# Altium schematic symbol library Schlib1.SchLib: 12 symbols
Pins are listed as number, name and electrical type; pins without a type are passive.

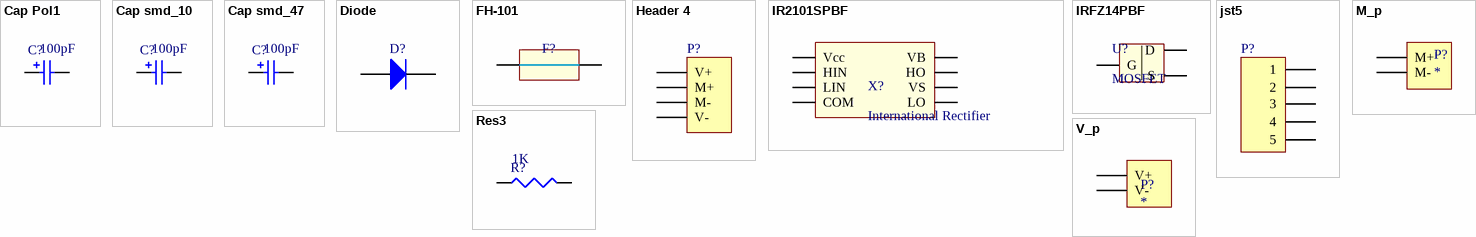
[diagram p0: symbols Cap Pol1 to V_p]

## Cap Pol1
designator C?  value 100pF
Polarized Capacitor (Radial); Published: 8-Jun-2000; LatestRevisionDate: 17-Jul-2002; LatestRevisionNote: Re-released for DXP Platform.; PackageReference: RB7.6-15; Publisher: Altium Limited; PackageDescription: Polarized Capacitor (Radial); 2 Leads
footprint Cap El (Polarized Capacitor (Radial); 2 Leads)
pins: 1, 2
1 alternate drawing of the same symbol

## Cap smd_10
designator C?  value 100pF
Polarized Capacitor (Radial); Published: 8-Jun-2000; LatestRevisionDate: 17-Jul-2002; LatestRevisionNote: Re-released for DXP Platform.; PackageReference: RB7.6-15; Publisher: Altium Limited; PackageDescription: Polarized Capacitor (Radial); 2 Leads
footprint smd cap 10
pins: 1, 2
1 alternate drawing of the same symbol

## Cap smd_47
designator C?  value 100pF
Polarized Capacitor (Radial); Published: 8-Jun-2000; LatestRevisionDate: 17-Jul-2002; LatestRevisionNote: Re-released for DXP Platform.; PackageReference: RB7.6-15; Publisher: Altium Limited; PackageDescription: Polarized Capacitor (Radial); 2 Leads
footprint smd cap 47
pins: 1, 2
1 alternate drawing of the same symbol

## Diode
designator D?
Default Diode; Published: 8-Jun-2000; LatestRevisionDate: 17-Jul-2002; LatestRevisionNote: Re-released for DXP Platform.; PackageVersion: Sep-1996; PackageReference: SMC; Publisher: Altium Limited; PackageDescription: DO-214-AB/SMC; 2 C-Bend Leads; Body 7.9 x 5.9 mm, inc. leads (LxW); Code_JEDEC: DO-214-AB
footprint SOD123
pins: 1, 2

## FH-101
designator F?, comment Fuse  (value not drawn)
footprint FH-101
pins: 1, 2

## Header 4
designator P?
Header, 4-Pin; LatestRevisionDate: 17-Jul-2002; LatestRevisionNote: Re-released for DXP Platform.; Publisher: Altium Limited
signal-integrity model Connector
footprint HDR1X4 (Connector; Header; 4 Position)
pins: 1 V+ "GND", 2 M+, 3 M-, 4 V-

## IR2101SPBF
designator X?, comment International Rectifier
footprint SOIC8
pins: 1 Vcc, 2 HIN, 3 LIN, 4 COM, 5 LO, 6 VS, 7 HO, 8 VB

## IRFZ14PBF
designator U?, comment MOSFET
Configuration: Single; Vds: 60V; Qg: 11nC; Qgs: 3.1nC; Qgd: 5.8nC
footprint SMD220_10CTQ150
pins: 1 G, 2 D, 3 S

## jst5
designator P?
Header, 5-Pin; LatestRevisionDate: 17-Jul-2002; LatestRevisionNote: Re-released for DXP Platform.; Publisher: Altium Limited
footprint JST5
pins: 1, 2, 3, 4, 5

## M_p
designator P?
footprint M_pin
pins: 1 M+ "GND", 2 M-

## Res3
designator R?  value 1K
Resistor; Published: 8-Jun-2000; LatestRevisionDate: 29-May-2009; LatestRevisionNote: IPC-7351 Footprint Added.; PackageReference: J1-0603; Publisher: Altium Limited; PackageDescription: Chip Resistor
footprint 14-1206 (Chip Resistor, Body 3.2x2.5mm, IPC High Density)
pins: 1, 2

## V_p
designator P?
footprint V_pin
pins: 1 V+ "GND", 2 V-